# Altium integrated library Microchip Microcontroller 8-Bit PIC18.IntLib: 1312 symbols (part 1 of 56)
Pins are listed as number, name and electrical type; pins without a type are passive.

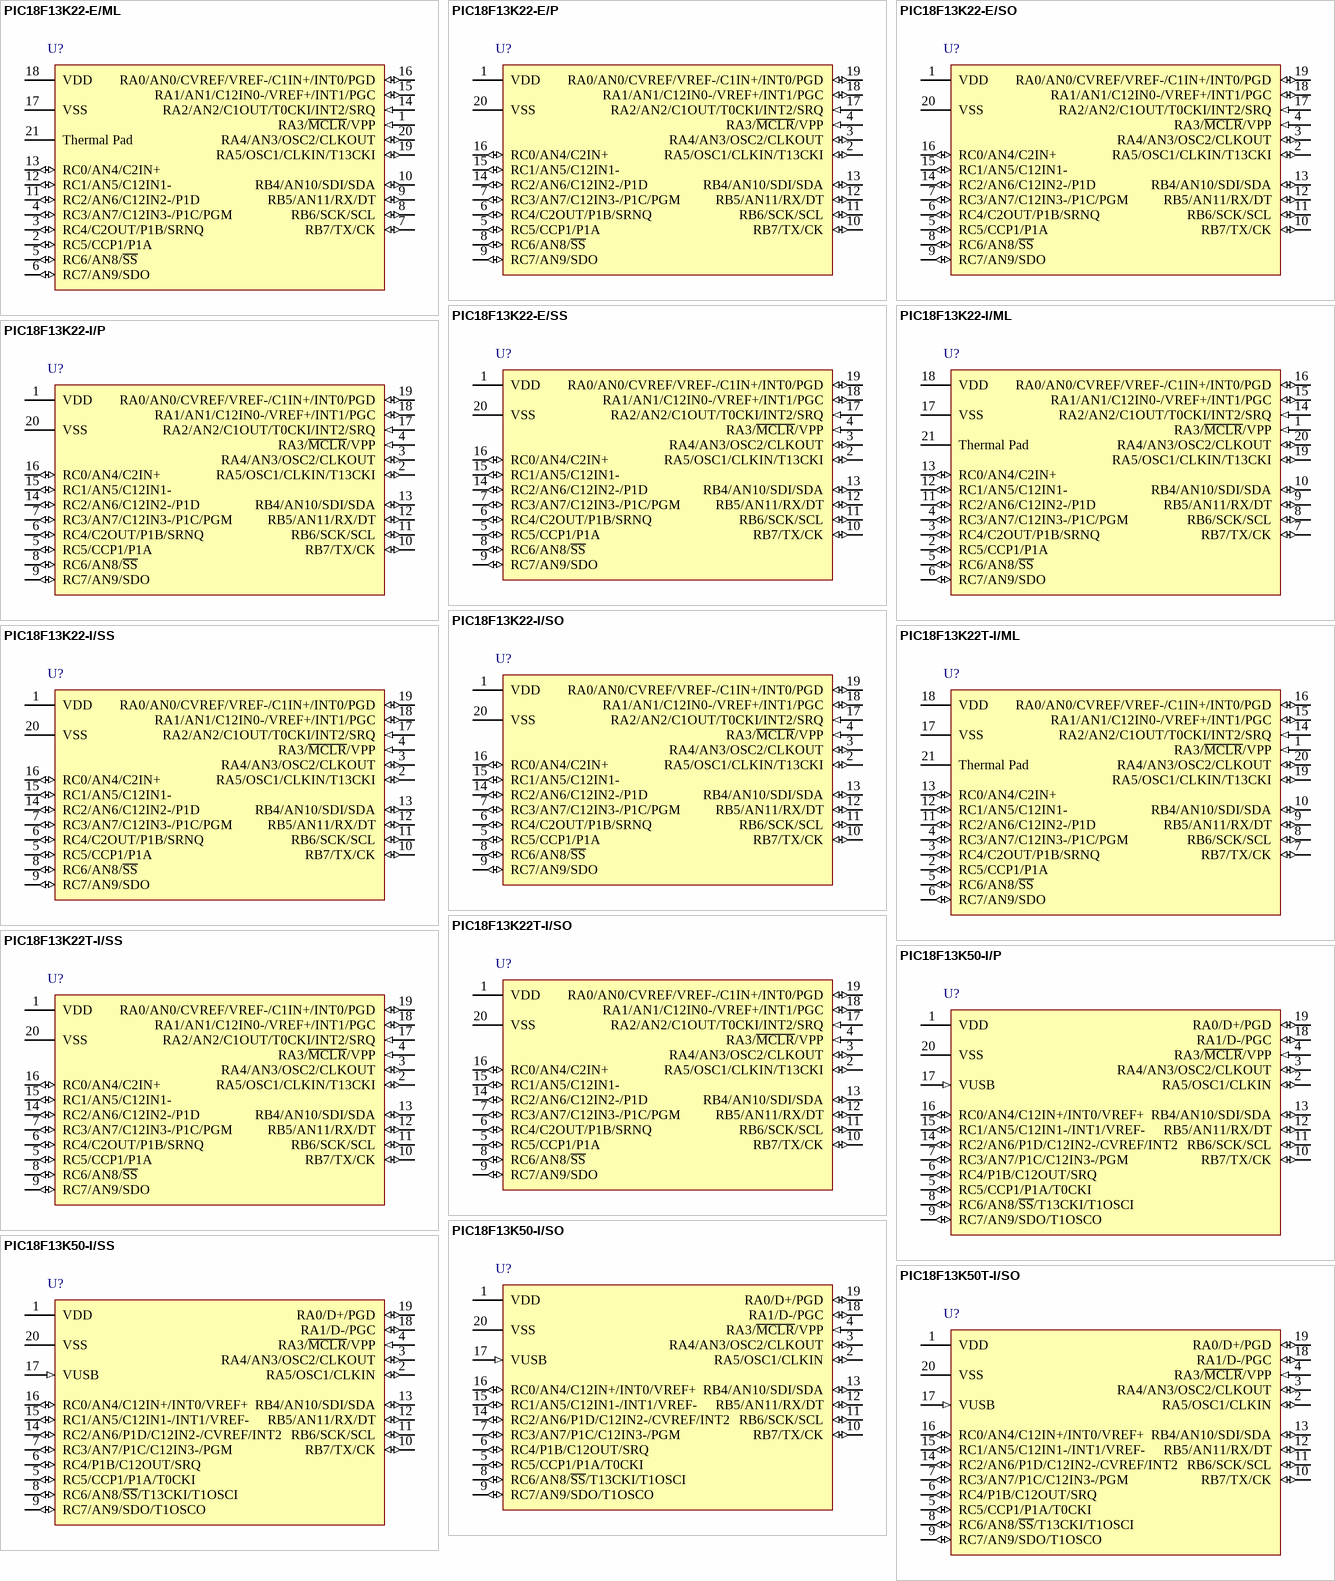
[diagram p0: symbols PIC18F13K22-E/ML to PIC18F13K50T-I/SO]

## PIC18F13K22-E/ML
designator U?
Flash Microcontroller with nanoWatt XLP Technology, 20-pin QFN, Extended Temperature; Published: 2-Dec-2009; DatasheetVersion: revC, Oct-2009; PackageVersion: revBB, Aug-2009; PackageReference: QFN-ML20; Publisher: Altium Limited; PackageDescription: 20-Lead Plastic Quad Flat, No Lead Package (ML) - 4x4x0.9 mm Body [QFN]; Supplier 1: Digi-Key; Supplier Part Number 1: PIC18F13K22-E/ML-ND; ComponentLink1Description: Datasheet; ComponentLink1URL: http://ww1.microchip.com/downloads/en/DeviceDoc/41365C.pdf; ComponentLink2Description: Packaging Specification; ComponentLink2URL: http://www.microchip.com/stellent/groups/techpub_sg/documents/packagingspec/en012702.pdf; ComponentLink3Description: Microchip.com Home; ComponentLink3URL: http://www.microchip.com/
footprint QFN-ML20_N (QFN, 20-Leads, Body 4x4mm, Pitch 0.5mm, IPC Medium Density)
footprint QFN-ML20_L (QFN, 20-Leads, Body 4x4mm, Pitch 0.5mm, IPC High Density)
footprint QFN-ML20_M (QFN, 20-Leads, Body 4x4mm, Pitch 0.5mm, IPC Low Density)
pins: 1 RA3/~{MCLR}/VPP (in), 2 RC5/CCP1/P1A (io), 3 RC4/C2OUT/P1B/SRNQ (io), 4 RC3/AN7/C12IN3-/P1C/PGM (io), 5 RC6/AN8/~{SS} (io), 6 RC7/AN9/SDO (io), 7 RB7/TX/CK (io), 8 RB6/SCK/SCL (io), 9 RB5/AN11/RX/DT (io), 10 RB4/AN10/SDI/SDA (io), 11 RC2/AN6/C12IN2-/P1D (io), 12 RC1/AN5/C12IN1- (io), 13 RC0/AN4/C2IN+ (io), 14 RA2/AN2/C1OUT/T0CKI/INT2/SRQ (in), 15 RA1/AN1/C12IN0-/VREF+/INT1/PGC (io), 16 RA0/AN0/CVREF/VREF-/C1IN+/INT0/PGD (io), 17 VSS (power), 18 VDD (power), 19 RA5/OSC1/CLKIN/T13CKI (io), 20 RA4/AN3/OSC2/CLKOUT (io), 21 Thermal Pad (power)

## PIC18F13K22-E/P
designator U?
Flash Microcontroller with nanoWatt XLP Technology, 20-pin PDIP, Extended Temperature; Published: 2-Dec-2009; DatasheetVersion: revC, Oct-2009; PackageVersion: revBB, Aug-2009; PackageReference: PDIP300-P20; Publisher: Altium Limited; PackageDescription: 20-Lead Plastic Dual In-Line (P) - 300 mil Body [PDIP]; Supplier 1: Digi-Key; Supplier Part Number 1: PIC18F13K22-E/P-ND; ComponentLink1Description: Datasheet; ComponentLink1URL: http://ww1.microchip.com/downloads/en/DeviceDoc/41365C.pdf; ComponentLink2Description: Packaging Specification; ComponentLink2URL: http://www.microchip.com/stellent/groups/techpub_sg/documents/packagingspec/en012702.pdf; ComponentLink3Description: Microchip.com Home; ComponentLink3URL: http://www.microchip.com/
footprint PDIP300-P20 (DIP, 20-Leads, Row Spacing 7.62mm, Pitch 2.54mm, Body 25.9x6.6mm)
pins: 1 VDD (power), 2 RA5/OSC1/CLKIN/T13CKI (io), 3 RA4/AN3/OSC2/CLKOUT (io), 4 RA3/~{MCLR}/VPP (in), 5 RC5/CCP1/P1A (io), 6 RC4/C2OUT/P1B/SRNQ (io), 7 RC3/AN7/C12IN3-/P1C/PGM (io), 8 RC6/AN8/~{SS} (io), 9 RC7/AN9/SDO (io), 10 RB7/TX/CK (io), 11 RB6/SCK/SCL (io), 12 RB5/AN11/RX/DT (io), 13 RB4/AN10/SDI/SDA (io), 14 RC2/AN6/C12IN2-/P1D (io), 15 RC1/AN5/C12IN1- (io), 16 RC0/AN4/C2IN+ (io), 17 RA2/AN2/C1OUT/T0CKI/INT2/SRQ (in), 18 RA1/AN1/C12IN0-/VREF+/INT1/PGC (io), 19 RA0/AN0/CVREF/VREF-/C1IN+/INT0/PGD (io), 20 VSS (power)

## PIC18F13K22-E/SO
designator U?
Flash Microcontroller with nanoWatt XLP Technology, 20-pin SOIC, Extended Temperature; Published: 2-Dec-2009; DatasheetVersion: revC, Oct-2009; PackageVersion: revBB, Aug-2009; PackageReference: SOIC-SO20; Publisher: Altium Limited; PackageDescription: 20-Lead Plastic Small Outline (SO) - Wide 7.50mm Body [SOIC]; Supplier 1: Digi-Key; Supplier Part Number 1: PIC18F13K22-E/SO-ND; Code_JEDEC: MS-013-AC; Code_IPC: SOIC127P1030-20; ComponentLink1Description: Datasheet; ComponentLink1URL: http://ww1.microchip.com/downloads/en/DeviceDoc/41365C.pdf; ComponentLink2Description: Packaging Specification; ComponentLink2URL: http://www.microchip.com/stellent/groups/techpub_sg/documents/packagingspec/en012702.pdf; ComponentLink3Description: Microchip.com Home; ComponentLink3URL: http://www.microchip.com/
footprint SOIC-SO20_N (SOIC, 20-Leads, Body 12.8x7.5mm, Pitch 1.27mm, IPC Medium Density)
footprint SOIC-SO20_L (SOIC, 20-Leads, Body 12.8x7.5mm, Pitch 1.27mm, IPC High Density)
footprint SOIC-SO20_M (SOIC, 20-Leads, Body 12.8x7.5mm, Pitch 1.27mm, IPC Low Density)
pins: 1 VDD (power), 2 RA5/OSC1/CLKIN/T13CKI (io), 3 RA4/AN3/OSC2/CLKOUT (io), 4 RA3/~{MCLR}/VPP (in), 5 RC5/CCP1/P1A (io), 6 RC4/C2OUT/P1B/SRNQ (io), 7 RC3/AN7/C12IN3-/P1C/PGM (io), 8 RC6/AN8/~{SS} (io), 9 RC7/AN9/SDO (io), 10 RB7/TX/CK (io), 11 RB6/SCK/SCL (io), 12 RB5/AN11/RX/DT (io), 13 RB4/AN10/SDI/SDA (io), 14 RC2/AN6/C12IN2-/P1D (io), 15 RC1/AN5/C12IN1- (io), 16 RC0/AN4/C2IN+ (io), 17 RA2/AN2/C1OUT/T0CKI/INT2/SRQ (in), 18 RA1/AN1/C12IN0-/VREF+/INT1/PGC (io), 19 RA0/AN0/CVREF/VREF-/C1IN+/INT0/PGD (io), 20 VSS (power)

## PIC18F13K22-E/SS
designator U?
Flash Microcontroller with nanoWatt XLP Technology, 20-pin SSOP, Extended Temperature; Published: 2-Dec-2009; DatasheetVersion: revC, Oct-2009; PackageVersion: revBB, Aug-2009; PackageReference: SSOP-SS20; Publisher: Altium Limited; PackageDescription: 20-Lead Plastic Shrink Small Outline (SS) - 5.3mm Body [SSOP]; Supplier 1: Digi-Key; Supplier Part Number 1: PIC18F13K22-E/SS-ND; Code_JEDEC: MO-150; Code_IPC: SOP65P780-20; ComponentLink1Description: Datasheet; ComponentLink1URL: http://ww1.microchip.com/downloads/en/DeviceDoc/41365C.pdf; ComponentLink2Description: Packaging Specification; ComponentLink2URL: http://www.microchip.com/stellent/groups/techpub_sg/documents/packagingspec/en012702.pdf; ComponentLink3Description: Microchip.com Home; ComponentLink3URL: http://www.microchip.com/
footprint SSOP-SS20_N (SOP, 20-Leads, Body 7.2x5.2mm, Pitch 0.65mm, IPC Medium Density)
footprint SSOP-SS20_L (SOP, 20-Leads, Body 7.2x5.2mm, Pitch 0.65mm, IPC High Density)
footprint SSOP-SS20_M (SOP, 20-Leads, Body 7.2x5.2mm, Pitch 0.65mm, IPC Low Density)
pins: 1 VDD (power), 2 RA5/OSC1/CLKIN/T13CKI (io), 3 RA4/AN3/OSC2/CLKOUT (io), 4 RA3/~{MCLR}/VPP (in), 5 RC5/CCP1/P1A (io), 6 RC4/C2OUT/P1B/SRNQ (io), 7 RC3/AN7/C12IN3-/P1C/PGM (io), 8 RC6/AN8/~{SS} (io), 9 RC7/AN9/SDO (io), 10 RB7/TX/CK (io), 11 RB6/SCK/SCL (io), 12 RB5/AN11/RX/DT (io), 13 RB4/AN10/SDI/SDA (io), 14 RC2/AN6/C12IN2-/P1D (io), 15 RC1/AN5/C12IN1- (io), 16 RC0/AN4/C2IN+ (io), 17 RA2/AN2/C1OUT/T0CKI/INT2/SRQ (in), 18 RA1/AN1/C12IN0-/VREF+/INT1/PGC (io), 19 RA0/AN0/CVREF/VREF-/C1IN+/INT0/PGD (io), 20 VSS (power)

## PIC18F13K22-I/ML
designator U?
Flash Microcontroller with nanoWatt XLP Technology, 20-pin QFN, Industrial Temperature; Published: 2-Dec-2009; DatasheetVersion: revC, Oct-2009; PackageVersion: revBB, Aug-2009; PackageReference: QFN-ML20; Publisher: Altium Limited; PackageDescription: 20-Lead Plastic Quad Flat, No Lead Package (ML) - 4x4x0.9 mm Body [QFN]; Supplier 1: Digi-Key; Supplier Part Number 1: PIC18F13K22-I/ML-ND; Supplier 2: Farnell; Supplier Part Number 2: 1778457; ComponentLink1Description: Datasheet; ComponentLink1URL: http://ww1.microchip.com/downloads/en/DeviceDoc/41365C.pdf; ComponentLink2Description: Packaging Specification; ComponentLink2URL: http://www.microchip.com/stellent/groups/techpub_sg/documents/packagingspec/en012702.pdf; ComponentLink3Description: Microchip.com Home; ComponentLink3URL: http://www.microchip.com/
footprint QFN-ML20_N (QFN, 20-Leads, Body 4x4mm, Pitch 0.5mm, IPC Medium Density)
footprint QFN-ML20_L (QFN, 20-Leads, Body 4x4mm, Pitch 0.5mm, IPC High Density)
footprint QFN-ML20_M (QFN, 20-Leads, Body 4x4mm, Pitch 0.5mm, IPC Low Density)
pins: 1 RA3/~{MCLR}/VPP (in), 2 RC5/CCP1/P1A (io), 3 RC4/C2OUT/P1B/SRNQ (io), 4 RC3/AN7/C12IN3-/P1C/PGM (io), 5 RC6/AN8/~{SS} (io), 6 RC7/AN9/SDO (io), 7 RB7/TX/CK (io), 8 RB6/SCK/SCL (io), 9 RB5/AN11/RX/DT (io), 10 RB4/AN10/SDI/SDA (io), 11 RC2/AN6/C12IN2-/P1D (io), 12 RC1/AN5/C12IN1- (io), 13 RC0/AN4/C2IN+ (io), 14 RA2/AN2/C1OUT/T0CKI/INT2/SRQ (in), 15 RA1/AN1/C12IN0-/VREF+/INT1/PGC (io), 16 RA0/AN0/CVREF/VREF-/C1IN+/INT0/PGD (io), 17 VSS (power), 18 VDD (power), 19 RA5/OSC1/CLKIN/T13CKI (io), 20 RA4/AN3/OSC2/CLKOUT (io), 21 Thermal Pad (power)

## PIC18F13K22-I/P
designator U?
Flash Microcontroller with nanoWatt XLP Technology, 20-pin PDIP, Industrial Temperature; Published: 2-Dec-2009; DatasheetVersion: revC, Oct-2009; PackageVersion: revBB, Aug-2009; PackageReference: PDIP300-P20; Publisher: Altium Limited; PackageDescription: 20-Lead Plastic Dual In-Line (P) - 300 mil Body [PDIP]; Supplier 1: Digi-Key; Supplier Part Number 1: PIC18F13K22-I/P-ND; Supplier 2: Farnell; Supplier Part Number 2: 1778458; ComponentLink1Description: Datasheet; ComponentLink1URL: http://ww1.microchip.com/downloads/en/DeviceDoc/41365C.pdf; ComponentLink2Description: Packaging Specification; ComponentLink2URL: http://www.microchip.com/stellent/groups/techpub_sg/documents/packagingspec/en012702.pdf; ComponentLink3Description: Microchip.com Home; ComponentLink3URL: http://www.microchip.com/
footprint PDIP300-P20 (DIP, 20-Leads, Row Spacing 7.62mm, Pitch 2.54mm, Body 25.9x6.6mm)
pins: 1 VDD (power), 2 RA5/OSC1/CLKIN/T13CKI (io), 3 RA4/AN3/OSC2/CLKOUT (io), 4 RA3/~{MCLR}/VPP (in), 5 RC5/CCP1/P1A (io), 6 RC4/C2OUT/P1B/SRNQ (io), 7 RC3/AN7/C12IN3-/P1C/PGM (io), 8 RC6/AN8/~{SS} (io), 9 RC7/AN9/SDO (io), 10 RB7/TX/CK (io), 11 RB6/SCK/SCL (io), 12 RB5/AN11/RX/DT (io), 13 RB4/AN10/SDI/SDA (io), 14 RC2/AN6/C12IN2-/P1D (io), 15 RC1/AN5/C12IN1- (io), 16 RC0/AN4/C2IN+ (io), 17 RA2/AN2/C1OUT/T0CKI/INT2/SRQ (in), 18 RA1/AN1/C12IN0-/VREF+/INT1/PGC (io), 19 RA0/AN0/CVREF/VREF-/C1IN+/INT0/PGD (io), 20 VSS (power)

## PIC18F13K22-I/SO
designator U?
Flash Microcontroller with nanoWatt XLP Technology, 20-pin SOIC, Industrial Temperature; Published: 2-Dec-2009; DatasheetVersion: revC, Oct-2009; PackageVersion: revBB, Aug-2009; PackageReference: SOIC-SO20; Publisher: Altium Limited; PackageDescription: 20-Lead Plastic Small Outline (SO) - Wide 7.50mm Body [SOIC]; Supplier 1: Digi-Key; Supplier Part Number 1: PIC18F13K22-I/SO-ND; Supplier 2: Farnell; Supplier Part Number 2: 1778459; Code_JEDEC: MS-013-AC; Code_IPC: SOIC127P1030-20; ComponentLink1Description: Datasheet; ComponentLink1URL: http://ww1.microchip.com/downloads/en/DeviceDoc/41365C.pdf; ComponentLink2Description: Packaging Specification; ComponentLink2URL: http://www.microchip.com/stellent/groups/techpub_sg/documents/packagingspec/en012702.pdf; ComponentLink3Description: Microchip.com Home; ComponentLink3URL: http://www.microchip.com/
footprint SOIC-SO20_N (SOIC, 20-Leads, Body 12.8x7.5mm, Pitch 1.27mm, IPC Medium Density)
footprint SOIC-SO20_L (SOIC, 20-Leads, Body 12.8x7.5mm, Pitch 1.27mm, IPC High Density)
footprint SOIC-SO20_M (SOIC, 20-Leads, Body 12.8x7.5mm, Pitch 1.27mm, IPC Low Density)
pins: 1 VDD (power), 2 RA5/OSC1/CLKIN/T13CKI (io), 3 RA4/AN3/OSC2/CLKOUT (io), 4 RA3/~{MCLR}/VPP (in), 5 RC5/CCP1/P1A (io), 6 RC4/C2OUT/P1B/SRNQ (io), 7 RC3/AN7/C12IN3-/P1C/PGM (io), 8 RC6/AN8/~{SS} (io), 9 RC7/AN9/SDO (io), 10 RB7/TX/CK (io), 11 RB6/SCK/SCL (io), 12 RB5/AN11/RX/DT (io), 13 RB4/AN10/SDI/SDA (io), 14 RC2/AN6/C12IN2-/P1D (io), 15 RC1/AN5/C12IN1- (io), 16 RC0/AN4/C2IN+ (io), 17 RA2/AN2/C1OUT/T0CKI/INT2/SRQ (in), 18 RA1/AN1/C12IN0-/VREF+/INT1/PGC (io), 19 RA0/AN0/CVREF/VREF-/C1IN+/INT0/PGD (io), 20 VSS (power)

## PIC18F13K22-I/SS
designator U?
Flash Microcontroller with nanoWatt XLP Technology, 20-pin SSOP, Industrial Temperature; Published: 2-Dec-2009; DatasheetVersion: revC, Oct-2009; PackageVersion: revBB, Aug-2009; PackageReference: SSOP-SS20; Publisher: Altium Limited; PackageDescription: 20-Lead Plastic Shrink Small Outline (SS) - 5.3mm Body [SSOP]; Supplier 1: Digi-Key; Supplier Part Number 1: PIC18F13K22-I/SS-ND; Supplier 2: Farnell; Supplier Part Number 2: 1778460; Code_JEDEC: MO-150; Code_IPC: SOP65P780-20; ComponentLink1Description: Datasheet; ComponentLink1URL: http://ww1.microchip.com/downloads/en/DeviceDoc/41365C.pdf; ComponentLink2Description: Packaging Specification; ComponentLink2URL: http://www.microchip.com/stellent/groups/techpub_sg/documents/packagingspec/en012702.pdf; ComponentLink3Description: Microchip.com Home; ComponentLink3URL: http://www.microchip.com/
footprint SSOP-SS20_N (SOP, 20-Leads, Body 7.2x5.2mm, Pitch 0.65mm, IPC Medium Density)
footprint SSOP-SS20_L (SOP, 20-Leads, Body 7.2x5.2mm, Pitch 0.65mm, IPC High Density)
footprint SSOP-SS20_M (SOP, 20-Leads, Body 7.2x5.2mm, Pitch 0.65mm, IPC Low Density)
pins: 1 VDD (power), 2 RA5/OSC1/CLKIN/T13CKI (io), 3 RA4/AN3/OSC2/CLKOUT (io), 4 RA3/~{MCLR}/VPP (in), 5 RC5/CCP1/P1A (io), 6 RC4/C2OUT/P1B/SRNQ (io), 7 RC3/AN7/C12IN3-/P1C/PGM (io), 8 RC6/AN8/~{SS} (io), 9 RC7/AN9/SDO (io), 10 RB7/TX/CK (io), 11 RB6/SCK/SCL (io), 12 RB5/AN11/RX/DT (io), 13 RB4/AN10/SDI/SDA (io), 14 RC2/AN6/C12IN2-/P1D (io), 15 RC1/AN5/C12IN1- (io), 16 RC0/AN4/C2IN+ (io), 17 RA2/AN2/C1OUT/T0CKI/INT2/SRQ (in), 18 RA1/AN1/C12IN0-/VREF+/INT1/PGC (io), 19 RA0/AN0/CVREF/VREF-/C1IN+/INT0/PGD (io), 20 VSS (power)

## PIC18F13K22T-I/ML
designator U?
Flash Microcontroller with nanoWatt XLP Technology, 20-pin QFN, Industrial Temperature, Tape and Reel; Published: 2-Dec-2009; DatasheetVersion: revC, Oct-2009; PackageVersion: revBB, Aug-2009; PackageReference: QFN-ML20; Publisher: Altium Limited; PackageDescription: 20-Lead Plastic Quad Flat, No Lead Package (ML) - 4x4x0.9 mm Body [QFN]; Supplier 1: Digi-Key; Supplier Part Number 1: PIC18F13K22T-I/ML-ND; ComponentLink1Description: Datasheet; ComponentLink1URL: http://ww1.microchip.com/downloads/en/DeviceDoc/41365C.pdf; ComponentLink2Description: Packaging Specification; ComponentLink2URL: http://www.microchip.com/stellent/groups/techpub_sg/documents/packagingspec/en012702.pdf; ComponentLink3Description: Microchip.com Home; ComponentLink3URL: http://www.microchip.com/
footprint QFN-ML20_N (QFN, 20-Leads, Body 4x4mm, Pitch 0.5mm, IPC Medium Density)
footprint QFN-ML20_L (QFN, 20-Leads, Body 4x4mm, Pitch 0.5mm, IPC High Density)
footprint QFN-ML20_M (QFN, 20-Leads, Body 4x4mm, Pitch 0.5mm, IPC Low Density)
pins: 1 RA3/~{MCLR}/VPP (in), 2 RC5/CCP1/P1A (io), 3 RC4/C2OUT/P1B/SRNQ (io), 4 RC3/AN7/C12IN3-/P1C/PGM (io), 5 RC6/AN8/~{SS} (io), 6 RC7/AN9/SDO (io), 7 RB7/TX/CK (io), 8 RB6/SCK/SCL (io), 9 RB5/AN11/RX/DT (io), 10 RB4/AN10/SDI/SDA (io), 11 RC2/AN6/C12IN2-/P1D (io), 12 RC1/AN5/C12IN1- (io), 13 RC0/AN4/C2IN+ (io), 14 RA2/AN2/C1OUT/T0CKI/INT2/SRQ (in), 15 RA1/AN1/C12IN0-/VREF+/INT1/PGC (io), 16 RA0/AN0/CVREF/VREF-/C1IN+/INT0/PGD (io), 17 VSS (power), 18 VDD (power), 19 RA5/OSC1/CLKIN/T13CKI (io), 20 RA4/AN3/OSC2/CLKOUT (io), 21 Thermal Pad (power)

## PIC18F13K22T-I/SO
designator U?
Flash Microcontroller with nanoWatt XLP Technology, 20-pin SOIC, Industrial Temperature, Tape and Reel; Published: 2-Dec-2009; DatasheetVersion: revC, Oct-2009; PackageVersion: revBB, Aug-2009; PackageReference: SOIC-SO20; Publisher: Altium Limited; PackageDescription: 20-Lead Plastic Small Outline (SO) - Wide 7.50mm Body [SOIC]; Supplier 1: Digi-Key; Supplier Part Number 1: PIC18F13K22T-I/SO-ND; Code_JEDEC: MS-013-AC; Code_IPC: SOIC127P1030-20; ComponentLink1Description: Datasheet; ComponentLink1URL: http://ww1.microchip.com/downloads/en/DeviceDoc/41365C.pdf; ComponentLink2Description: Packaging Specification; ComponentLink2URL: http://www.microchip.com/stellent/groups/techpub_sg/documents/packagingspec/en012702.pdf; ComponentLink3Description: Microchip.com Home; ComponentLink3URL: http://www.microchip.com/
footprint SOIC-SO20_N (SOIC, 20-Leads, Body 12.8x7.5mm, Pitch 1.27mm, IPC Medium Density)
footprint SOIC-SO20_L (SOIC, 20-Leads, Body 12.8x7.5mm, Pitch 1.27mm, IPC High Density)
footprint SOIC-SO20_M (SOIC, 20-Leads, Body 12.8x7.5mm, Pitch 1.27mm, IPC Low Density)
pins: 1 VDD (power), 2 RA5/OSC1/CLKIN/T13CKI (io), 3 RA4/AN3/OSC2/CLKOUT (io), 4 RA3/~{MCLR}/VPP (in), 5 RC5/CCP1/P1A (io), 6 RC4/C2OUT/P1B/SRNQ (io), 7 RC3/AN7/C12IN3-/P1C/PGM (io), 8 RC6/AN8/~{SS} (io), 9 RC7/AN9/SDO (io), 10 RB7/TX/CK (io), 11 RB6/SCK/SCL (io), 12 RB5/AN11/RX/DT (io), 13 RB4/AN10/SDI/SDA (io), 14 RC2/AN6/C12IN2-/P1D (io), 15 RC1/AN5/C12IN1- (io), 16 RC0/AN4/C2IN+ (io), 17 RA2/AN2/C1OUT/T0CKI/INT2/SRQ (in), 18 RA1/AN1/C12IN0-/VREF+/INT1/PGC (io), 19 RA0/AN0/CVREF/VREF-/C1IN+/INT0/PGD (io), 20 VSS (power)

## PIC18F13K22T-I/SS
designator U?
Flash Microcontroller with nanoWatt XLP Technology, 20-pin SSOP, Industrial Temperature, Tape and Reel; Published: 2-Dec-2009; DatasheetVersion: revC, Oct-2009; PackageVersion: revBB, Aug-2009; PackageReference: SSOP-SS20; Publisher: Altium Limited; PackageDescription: 20-Lead Plastic Shrink Small Outline (SS) - 5.3mm Body [SSOP]; Supplier 1: Digi-Key; Supplier Part Number 1: PIC18F13K22T-I/SS-ND; Code_JEDEC: MO-150; Code_IPC: SOP65P780-20; ComponentLink1Description: Datasheet; ComponentLink1URL: http://ww1.microchip.com/downloads/en/DeviceDoc/41365C.pdf; ComponentLink2Description: Packaging Specification; ComponentLink2URL: http://www.microchip.com/stellent/groups/techpub_sg/documents/packagingspec/en012702.pdf; ComponentLink3Description: Microchip.com Home; ComponentLink3URL: http://www.microchip.com/
footprint SSOP-SS20_N (SOP, 20-Leads, Body 7.2x5.2mm, Pitch 0.65mm, IPC Medium Density)
footprint SSOP-SS20_L (SOP, 20-Leads, Body 7.2x5.2mm, Pitch 0.65mm, IPC High Density)
footprint SSOP-SS20_M (SOP, 20-Leads, Body 7.2x5.2mm, Pitch 0.65mm, IPC Low Density)
pins: 1 VDD (power), 2 RA5/OSC1/CLKIN/T13CKI (io), 3 RA4/AN3/OSC2/CLKOUT (io), 4 RA3/~{MCLR}/VPP (in), 5 RC5/CCP1/P1A (io), 6 RC4/C2OUT/P1B/SRNQ (io), 7 RC3/AN7/C12IN3-/P1C/PGM (io), 8 RC6/AN8/~{SS} (io), 9 RC7/AN9/SDO (io), 10 RB7/TX/CK (io), 11 RB6/SCK/SCL (io), 12 RB5/AN11/RX/DT (io), 13 RB4/AN10/SDI/SDA (io), 14 RC2/AN6/C12IN2-/P1D (io), 15 RC1/AN5/C12IN1- (io), 16 RC0/AN4/C2IN+ (io), 17 RA2/AN2/C1OUT/T0CKI/INT2/SRQ (in), 18 RA1/AN1/C12IN0-/VREF+/INT1/PGC (io), 19 RA0/AN0/CVREF/VREF-/C1IN+/INT0/PGD (io), 20 VSS (power)

## PIC18F13K50-I/P
designator U?
USB Flash Microcontroller with nanoWatt XLP Technology, 20-pin PDIP, Industrial Temperature; Published: 2-Dec-2009; DatasheetVersion: revC, Mar-2009; PackageVersion: revBB, Aug-2009; PackageReference: PDIP300-P20; Publisher: Altium Limited; PackageDescription: 20-Lead Plastic Dual In-Line (P) - 300 mil Body [PDIP]; Supplier 1: Digi-Key; Supplier Part Number 1: PIC18F13K50-I/P-ND; Supplier 2: Farnell; Supplier Part Number 2: 1697073; ComponentLink1Description: Datasheet; ComponentLink1URL: http://ww1.microchip.com/downloads/en/DeviceDoc/41350C.pdf; ComponentLink2Description: Packaging Specification; ComponentLink2URL: http://www.microchip.com/stellent/groups/techpub_sg/documents/packagingspec/en012702.pdf; ComponentLink3Description: Microchip.com Home; ComponentLink3URL: http://www.microchip.com/
footprint PDIP300-P20 (DIP, 20-Leads, Row Spacing 7.62mm, Pitch 2.54mm, Body 25.9x6.6mm)
pins: 1 VDD (power), 2 RA5/OSC1/CLKIN (io), 3 RA4/AN3/OSC2/CLKOUT (io), 4 RA3/~{MCLR}/VPP (in), 5 RC5/CCP1/P1A/T0CKI (io), 6 RC4/P1B/C12OUT/SRQ (io), 7 RC3/AN7/P1C/C12IN3-/PGM (io), 8 RC6/AN8/~{SS}/T13CKI/T1OSCI (io), 9 RC7/AN9/SDO/T1OSCO (io), 10 RB7/TX/CK (io), 11 RB6/SCK/SCL (io), 12 RB5/AN11/RX/DT (io), 13 RB4/AN10/SDI/SDA (io), 14 RC2/AN6/P1D/C12IN2-/CVREF/INT2 (io), 15 RC1/AN5/C12IN1-/INT1/VREF- (io), 16 RC0/AN4/C12IN+/INT0/VREF+ (io), 17 VUSB (in), 18 RA1/D-/PGC (io), 19 RA0/D+/PGD (io), 20 VSS (power)

## PIC18F13K50-I/SO
designator U?
USB Flash Microcontroller with nanoWatt XLP Technology, 20-pin SOIC, Industrial Temperature; Published: 2-Dec-2009; DatasheetVersion: revC, Mar-2009; PackageVersion: revBB, Aug-2009; PackageReference: SOIC-SO20; Publisher: Altium Limited; PackageDescription: 20-Lead Plastic Small Outline (SO) - Wide 7.50mm Body [SOIC]; Supplier 1: Digi-Key; Supplier Part Number 1: PIC18F13K50-I/SO-ND; Supplier 2: Farnell; Supplier Part Number 2: 1706301; Code_JEDEC: MS-013-AC; Code_IPC: SOIC127P1030-20; ComponentLink1Description: Datasheet; ComponentLink1URL: http://ww1.microchip.com/downloads/en/DeviceDoc/41350C.pdf; ComponentLink2Description: Packaging Specification; ComponentLink2URL: http://www.microchip.com/stellent/groups/techpub_sg/documents/packagingspec/en012702.pdf; ComponentLink3Description: Microchip.com Home; ComponentLink3URL: http://www.microchip.com/
footprint SOIC-SO20_N (SOIC, 20-Leads, Body 12.8x7.5mm, Pitch 1.27mm, IPC Medium Density)
footprint SOIC-SO20_L (SOIC, 20-Leads, Body 12.8x7.5mm, Pitch 1.27mm, IPC High Density)
footprint SOIC-SO20_M (SOIC, 20-Leads, Body 12.8x7.5mm, Pitch 1.27mm, IPC Low Density)
pins: 1 VDD (power), 2 RA5/OSC1/CLKIN (io), 3 RA4/AN3/OSC2/CLKOUT (io), 4 RA3/~{MCLR}/VPP (in), 5 RC5/CCP1/P1A/T0CKI (io), 6 RC4/P1B/C12OUT/SRQ (io), 7 RC3/AN7/P1C/C12IN3-/PGM (io), 8 RC6/AN8/~{SS}/T13CKI/T1OSCI (io), 9 RC7/AN9/SDO/T1OSCO (io), 10 RB7/TX/CK (io), 11 RB6/SCK/SCL (io), 12 RB5/AN11/RX/DT (io), 13 RB4/AN10/SDI/SDA (io), 14 RC2/AN6/P1D/C12IN2-/CVREF/INT2 (io), 15 RC1/AN5/C12IN1-/INT1/VREF- (io), 16 RC0/AN4/C12IN+/INT0/VREF+ (io), 17 VUSB (in), 18 RA1/D-/PGC (io), 19 RA0/D+/PGD (io), 20 VSS (power)

## PIC18F13K50-I/SS
designator U?
USB Flash Microcontroller with nanoWatt XLP Technology, 20-pin SSOP, Industrial Temperature; Published: 2-Dec-2009; DatasheetVersion: revC, Mar-2009; PackageVersion: revBB, Aug-2009; PackageReference: SSOP-SS20; Publisher: Altium Limited; PackageDescription: 20-Lead Plastic Shrink Small Outline (SS) - 5.3mm Body [SSOP]; Supplier 1: Digi-Key; Supplier Part Number 1: PIC18F13K50-I/SS-ND; Supplier 2: Farnell; Supplier Part Number 2: 1706290; Code_JEDEC: MO-150; Code_IPC: SOP65P780-20; ComponentLink1Description: Datasheet; ComponentLink1URL: http://ww1.microchip.com/downloads/en/DeviceDoc/41350C.pdf; ComponentLink2Description: Packaging Specification; ComponentLink2URL: http://www.microchip.com/stellent/groups/techpub_sg/documents/packagingspec/en012702.pdf; ComponentLink3Description: Microchip.com Home; ComponentLink3URL: http://www.microchip.com/
footprint SSOP-SS20_N (SOP, 20-Leads, Body 7.2x5.2mm, Pitch 0.65mm, IPC Medium Density)
footprint SSOP-SS20_L (SOP, 20-Leads, Body 7.2x5.2mm, Pitch 0.65mm, IPC High Density)
footprint SSOP-SS20_M (SOP, 20-Leads, Body 7.2x5.2mm, Pitch 0.65mm, IPC Low Density)
pins: 1 VDD (power), 2 RA5/OSC1/CLKIN (io), 3 RA4/AN3/OSC2/CLKOUT (io), 4 RA3/~{MCLR}/VPP (in), 5 RC5/CCP1/P1A/T0CKI (io), 6 RC4/P1B/C12OUT/SRQ (io), 7 RC3/AN7/P1C/C12IN3-/PGM (io), 8 RC6/AN8/~{SS}/T13CKI/T1OSCI (io), 9 RC7/AN9/SDO/T1OSCO (io), 10 RB7/TX/CK (io), 11 RB6/SCK/SCL (io), 12 RB5/AN11/RX/DT (io), 13 RB4/AN10/SDI/SDA (io), 14 RC2/AN6/P1D/C12IN2-/CVREF/INT2 (io), 15 RC1/AN5/C12IN1-/INT1/VREF- (io), 16 RC0/AN4/C12IN+/INT0/VREF+ (io), 17 VUSB (in), 18 RA1/D-/PGC (io), 19 RA0/D+/PGD (io), 20 VSS (power)

## PIC18F13K50T-I/SO
designator U?
USB Flash Microcontroller with nanoWatt XLP Technology, 20-pin SOIC, Industrial Temperature, Tape and Reel; Published: 2-Dec-2009; DatasheetVersion: revC, Mar-2009; PackageVersion: revBB, Aug-2009; PackageReference: SOIC-SO20; Publisher: Altium Limited; PackageDescription: 20-Lead Plastic Small Outline (SO) - Wide 7.50mm Body [SOIC]; Supplier 1: Digi-Key; Supplier Part Number 1: PIC18F13K50T-I/SO-ND; Code_JEDEC: MS-013-AC; Code_IPC: SOIC127P1030-20; ComponentLink1Description: Datasheet; ComponentLink1URL: http://ww1.microchip.com/downloads/en/DeviceDoc/41350C.pdf; ComponentLink2Description: Packaging Specification; ComponentLink2URL: http://www.microchip.com/stellent/groups/techpub_sg/documents/packagingspec/en012702.pdf; ComponentLink3Description: Microchip.com Home; ComponentLink3URL: http://www.microchip.com/
footprint SOIC-SO20_N (SOIC, 20-Leads, Body 12.8x7.5mm, Pitch 1.27mm, IPC Medium Density)
footprint SOIC-SO20_L (SOIC, 20-Leads, Body 12.8x7.5mm, Pitch 1.27mm, IPC High Density)
footprint SOIC-SO20_M (SOIC, 20-Leads, Body 12.8x7.5mm, Pitch 1.27mm, IPC Low Density)
pins: 1 VDD (power), 2 RA5/OSC1/CLKIN (io), 3 RA4/AN3/OSC2/CLKOUT (io), 4 RA3/~{MCLR}/VPP (in), 5 RC5/CCP1/P1A/T0CKI (io), 6 RC4/P1B/C12OUT/SRQ (io), 7 RC3/AN7/P1C/C12IN3-/PGM (io), 8 RC6/AN8/~{SS}/T13CKI/T1OSCI (io), 9 RC7/AN9/SDO/T1OSCO (io), 10 RB7/TX/CK (io), 11 RB6/SCK/SCL (io), 12 RB5/AN11/RX/DT (io), 13 RB4/AN10/SDI/SDA (io), 14 RC2/AN6/P1D/C12IN2-/CVREF/INT2 (io), 15 RC1/AN5/C12IN1-/INT1/VREF- (io), 16 RC0/AN4/C12IN+/INT0/VREF+ (io), 17 VUSB (in), 18 RA1/D-/PGC (io), 19 RA0/D+/PGD (io), 20 VSS (power)

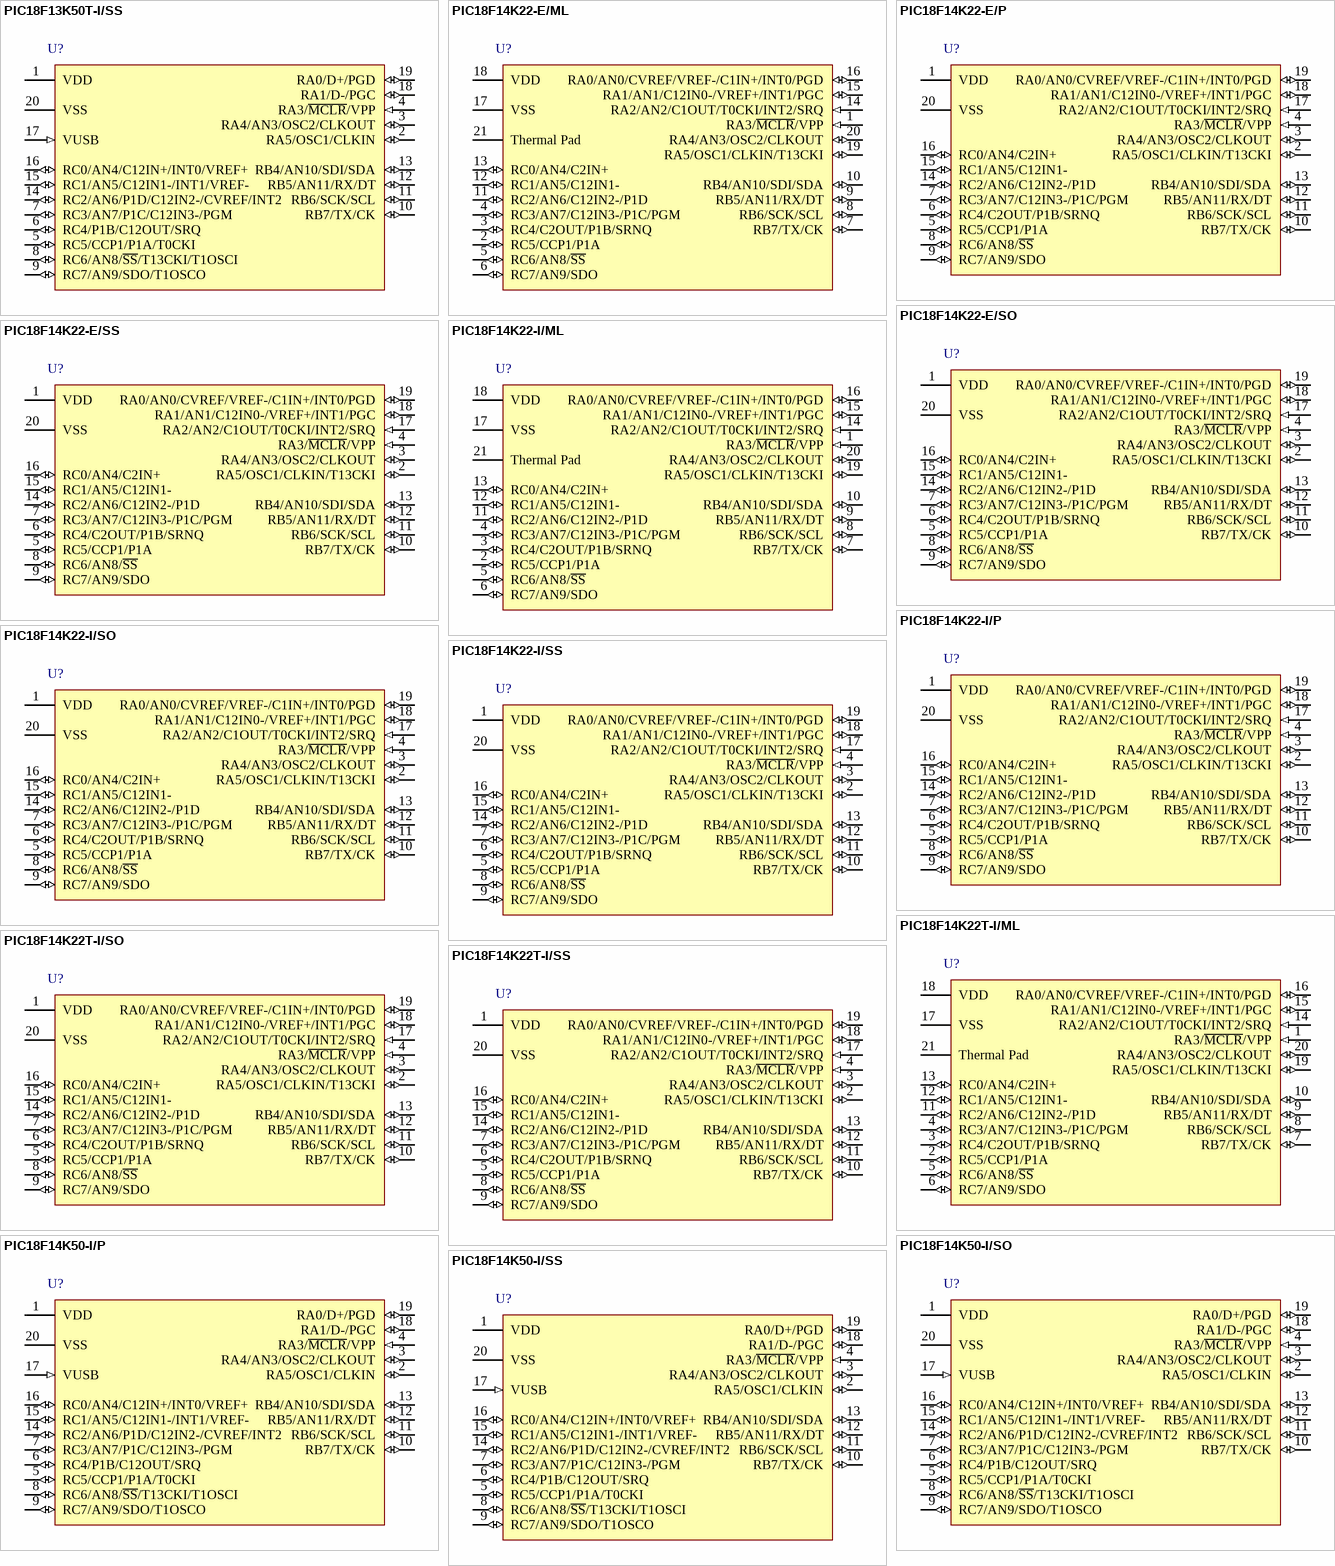
[diagram p1: symbols PIC18F13K50T-I/SS to PIC18F14K50-I/SS]

## PIC18F13K50T-I/SS
designator U?
USB Flash Microcontroller with nanoWatt XLP Technology, 20-pin SSOP, Industrial Temperature, Tape and Reel; Published: 2-Dec-2009; DatasheetVersion: revC, Mar-2009; PackageVersion: revBB, Aug-2009; PackageReference: SSOP-SS20; Publisher: Altium Limited; PackageDescription: 20-Lead Plastic Shrink Small Outline (SS) - 5.3mm Body [SSOP]; Supplier 1: Digi-Key; Supplier Part Number 1: PIC18F13K50T-I/SS-ND; Code_JEDEC: MO-150; Code_IPC: SOP65P780-20; ComponentLink1Description: Datasheet; ComponentLink1URL: http://ww1.microchip.com/downloads/en/DeviceDoc/41350C.pdf; ComponentLink2Description: Packaging Specification; ComponentLink2URL: http://www.microchip.com/stellent/groups/techpub_sg/documents/packagingspec/en012702.pdf; ComponentLink3Description: Microchip.com Home; ComponentLink3URL: http://www.microchip.com/
footprint SSOP-SS20_N (SOP, 20-Leads, Body 7.2x5.2mm, Pitch 0.65mm, IPC Medium Density)
footprint SSOP-SS20_L (SOP, 20-Leads, Body 7.2x5.2mm, Pitch 0.65mm, IPC High Density)
footprint SSOP-SS20_M (SOP, 20-Leads, Body 7.2x5.2mm, Pitch 0.65mm, IPC Low Density)
pins: 1 VDD (power), 2 RA5/OSC1/CLKIN (io), 3 RA4/AN3/OSC2/CLKOUT (io), 4 RA3/~{MCLR}/VPP (in), 5 RC5/CCP1/P1A/T0CKI (io), 6 RC4/P1B/C12OUT/SRQ (io), 7 RC3/AN7/P1C/C12IN3-/PGM (io), 8 RC6/AN8/~{SS}/T13CKI/T1OSCI (io), 9 RC7/AN9/SDO/T1OSCO (io), 10 RB7/TX/CK (io), 11 RB6/SCK/SCL (io), 12 RB5/AN11/RX/DT (io), 13 RB4/AN10/SDI/SDA (io), 14 RC2/AN6/P1D/C12IN2-/CVREF/INT2 (io), 15 RC1/AN5/C12IN1-/INT1/VREF- (io), 16 RC0/AN4/C12IN+/INT0/VREF+ (io), 17 VUSB (in), 18 RA1/D-/PGC (io), 19 RA0/D+/PGD (io), 20 VSS (power)

## PIC18F14K22-E/ML
designator U?
Flash Microcontroller with nanoWatt XLP Technology, 20-pin QFN, Extended Temperature; Published: 2-Dec-2009; DatasheetVersion: revC, Oct-2009; PackageVersion: revBB, Aug-2009; PackageReference: QFN-ML20; Publisher: Altium Limited; PackageDescription: 20-Lead Plastic Quad Flat, No Lead Package (ML) - 4x4x0.9 mm Body [QFN]; Supplier 1: Digi-Key; Supplier Part Number 1: PIC18F14K22-E/ML-ND; ComponentLink1Description: Datasheet; ComponentLink1URL: http://ww1.microchip.com/downloads/en/DeviceDoc/41365C.pdf; ComponentLink2Description: Packaging Specification; ComponentLink2URL: http://www.microchip.com/stellent/groups/techpub_sg/documents/packagingspec/en012702.pdf; ComponentLink3Description: Microchip.com Home; ComponentLink3URL: http://www.microchip.com/
footprint QFN-ML20_N (QFN, 20-Leads, Body 4x4mm, Pitch 0.5mm, IPC Medium Density)
footprint QFN-ML20_L (QFN, 20-Leads, Body 4x4mm, Pitch 0.5mm, IPC High Density)
footprint QFN-ML20_M (QFN, 20-Leads, Body 4x4mm, Pitch 0.5mm, IPC Low Density)
pins: 1 RA3/~{MCLR}/VPP (in), 2 RC5/CCP1/P1A (io), 3 RC4/C2OUT/P1B/SRNQ (io), 4 RC3/AN7/C12IN3-/P1C/PGM (io), 5 RC6/AN8/~{SS} (io), 6 RC7/AN9/SDO (io), 7 RB7/TX/CK (io), 8 RB6/SCK/SCL (io), 9 RB5/AN11/RX/DT (io), 10 RB4/AN10/SDI/SDA (io), 11 RC2/AN6/C12IN2-/P1D (io), 12 RC1/AN5/C12IN1- (io), 13 RC0/AN4/C2IN+ (io), 14 RA2/AN2/C1OUT/T0CKI/INT2/SRQ (in), 15 RA1/AN1/C12IN0-/VREF+/INT1/PGC (io), 16 RA0/AN0/CVREF/VREF-/C1IN+/INT0/PGD (io), 17 VSS (power), 18 VDD (power), 19 RA5/OSC1/CLKIN/T13CKI (io), 20 RA4/AN3/OSC2/CLKOUT (io), 21 Thermal Pad (power)

## PIC18F14K22-E/P
designator U?
Flash Microcontroller with nanoWatt XLP Technology, 20-pin PDIP, Extended Temperature; Published: 2-Dec-2009; DatasheetVersion: revC, Oct-2009; PackageVersion: revBB, Aug-2009; PackageReference: PDIP300-P20; Publisher: Altium Limited; PackageDescription: 20-Lead Plastic Dual In-Line (P) - 300 mil Body [PDIP]; Supplier 1: Digi-Key; Supplier Part Number 1: PIC18F14K22-E/P-ND; ComponentLink1Description: Datasheet; ComponentLink1URL: http://ww1.microchip.com/downloads/en/DeviceDoc/41365C.pdf; ComponentLink2Description: Packaging Specification; ComponentLink2URL: http://www.microchip.com/stellent/groups/techpub_sg/documents/packagingspec/en012702.pdf; ComponentLink3Description: Microchip.com Home; ComponentLink3URL: http://www.microchip.com/
footprint PDIP300-P20 (DIP, 20-Leads, Row Spacing 7.62mm, Pitch 2.54mm, Body 25.9x6.6mm)
pins: 1 VDD (power), 2 RA5/OSC1/CLKIN/T13CKI (io), 3 RA4/AN3/OSC2/CLKOUT (io), 4 RA3/~{MCLR}/VPP (in), 5 RC5/CCP1/P1A (io), 6 RC4/C2OUT/P1B/SRNQ (io), 7 RC3/AN7/C12IN3-/P1C/PGM (io), 8 RC6/AN8/~{SS} (io), 9 RC7/AN9/SDO (io), 10 RB7/TX/CK (io), 11 RB6/SCK/SCL (io), 12 RB5/AN11/RX/DT (io), 13 RB4/AN10/SDI/SDA (io), 14 RC2/AN6/C12IN2-/P1D (io), 15 RC1/AN5/C12IN1- (io), 16 RC0/AN4/C2IN+ (io), 17 RA2/AN2/C1OUT/T0CKI/INT2/SRQ (in), 18 RA1/AN1/C12IN0-/VREF+/INT1/PGC (io), 19 RA0/AN0/CVREF/VREF-/C1IN+/INT0/PGD (io), 20 VSS (power)

## PIC18F14K22-E/SO
designator U?
Flash Microcontroller with nanoWatt XLP Technology, 20-pin SOIC, Extended Temperature; Published: 2-Dec-2009; DatasheetVersion: revC, Oct-2009; PackageVersion: revBB, Aug-2009; PackageReference: SOIC-SO20; Publisher: Altium Limited; PackageDescription: 20-Lead Plastic Small Outline (SO) - Wide 7.50mm Body [SOIC]; Supplier 1: Digi-Key; Supplier Part Number 1: PIC18F14K22-E/SO-ND; Code_JEDEC: MS-013-AC; Code_IPC: SOIC127P1030-20; ComponentLink1Description: Datasheet; ComponentLink1URL: http://ww1.microchip.com/downloads/en/DeviceDoc/41365C.pdf; ComponentLink2Description: Packaging Specification; ComponentLink2URL: http://www.microchip.com/stellent/groups/techpub_sg/documents/packagingspec/en012702.pdf; ComponentLink3Description: Microchip.com Home; ComponentLink3URL: http://www.microchip.com/
footprint SOIC-SO20_N (SOIC, 20-Leads, Body 12.8x7.5mm, Pitch 1.27mm, IPC Medium Density)
footprint SOIC-SO20_L (SOIC, 20-Leads, Body 12.8x7.5mm, Pitch 1.27mm, IPC High Density)
footprint SOIC-SO20_M (SOIC, 20-Leads, Body 12.8x7.5mm, Pitch 1.27mm, IPC Low Density)
pins: 1 VDD (power), 2 RA5/OSC1/CLKIN/T13CKI (io), 3 RA4/AN3/OSC2/CLKOUT (io), 4 RA3/~{MCLR}/VPP (in), 5 RC5/CCP1/P1A (io), 6 RC4/C2OUT/P1B/SRNQ (io), 7 RC3/AN7/C12IN3-/P1C/PGM (io), 8 RC6/AN8/~{SS} (io), 9 RC7/AN9/SDO (io), 10 RB7/TX/CK (io), 11 RB6/SCK/SCL (io), 12 RB5/AN11/RX/DT (io), 13 RB4/AN10/SDI/SDA (io), 14 RC2/AN6/C12IN2-/P1D (io), 15 RC1/AN5/C12IN1- (io), 16 RC0/AN4/C2IN+ (io), 17 RA2/AN2/C1OUT/T0CKI/INT2/SRQ (in), 18 RA1/AN1/C12IN0-/VREF+/INT1/PGC (io), 19 RA0/AN0/CVREF/VREF-/C1IN+/INT0/PGD (io), 20 VSS (power)

## PIC18F14K22-E/SS
designator U?
Flash Microcontroller with nanoWatt XLP Technology, 20-pin SSOP, Extended Temperature; Published: 2-Dec-2009; DatasheetVersion: revC, Oct-2009; PackageVersion: revBB, Aug-2009; PackageReference: SSOP-SS20; Publisher: Altium Limited; PackageDescription: 20-Lead Plastic Shrink Small Outline (SS) - 5.3mm Body [SSOP]; Supplier 1: Digi-Key; Supplier Part Number 1: PIC18F14K22-E/SS-ND; Code_JEDEC: MO-150; Code_IPC: SOP65P780-20; ComponentLink1Description: Datasheet; ComponentLink1URL: http://ww1.microchip.com/downloads/en/DeviceDoc/41365C.pdf; ComponentLink2Description: Packaging Specification; ComponentLink2URL: http://www.microchip.com/stellent/groups/techpub_sg/documents/packagingspec/en012702.pdf; ComponentLink3Description: Microchip.com Home; ComponentLink3URL: http://www.microchip.com/
footprint SSOP-SS20_N (SOP, 20-Leads, Body 7.2x5.2mm, Pitch 0.65mm, IPC Medium Density)
footprint SSOP-SS20_L (SOP, 20-Leads, Body 7.2x5.2mm, Pitch 0.65mm, IPC High Density)
footprint SSOP-SS20_M (SOP, 20-Leads, Body 7.2x5.2mm, Pitch 0.65mm, IPC Low Density)
pins: 1 VDD (power), 2 RA5/OSC1/CLKIN/T13CKI (io), 3 RA4/AN3/OSC2/CLKOUT (io), 4 RA3/~{MCLR}/VPP (in), 5 RC5/CCP1/P1A (io), 6 RC4/C2OUT/P1B/SRNQ (io), 7 RC3/AN7/C12IN3-/P1C/PGM (io), 8 RC6/AN8/~{SS} (io), 9 RC7/AN9/SDO (io), 10 RB7/TX/CK (io), 11 RB6/SCK/SCL (io), 12 RB5/AN11/RX/DT (io), 13 RB4/AN10/SDI/SDA (io), 14 RC2/AN6/C12IN2-/P1D (io), 15 RC1/AN5/C12IN1- (io), 16 RC0/AN4/C2IN+ (io), 17 RA2/AN2/C1OUT/T0CKI/INT2/SRQ (in), 18 RA1/AN1/C12IN0-/VREF+/INT1/PGC (io), 19 RA0/AN0/CVREF/VREF-/C1IN+/INT0/PGD (io), 20 VSS (power)

## PIC18F14K22-I/ML
designator U?
Flash Microcontroller with nanoWatt XLP Technology, 20-pin QFN, Industrial Temperature; Published: 2-Dec-2009; DatasheetVersion: revC, Oct-2009; PackageVersion: revBB, Aug-2009; PackageReference: QFN-ML20; Publisher: Altium Limited; PackageDescription: 20-Lead Plastic Quad Flat, No Lead Package (ML) - 4x4x0.9 mm Body [QFN]; Supplier 1: Digi-Key; Supplier Part Number 1: PIC18F14K22-I/ML-ND; Supplier 2: Farnell; Supplier Part Number 2: 1778461; ComponentLink1Description: Datasheet; ComponentLink1URL: http://ww1.microchip.com/downloads/en/DeviceDoc/41365C.pdf; ComponentLink2Description: Packaging Specification; ComponentLink2URL: http://www.microchip.com/stellent/groups/techpub_sg/documents/packagingspec/en012702.pdf; ComponentLink3Description: Microchip.com Home; ComponentLink3URL: http://www.microchip.com/
footprint QFN-ML20_N (QFN, 20-Leads, Body 4x4mm, Pitch 0.5mm, IPC Medium Density)
footprint QFN-ML20_L (QFN, 20-Leads, Body 4x4mm, Pitch 0.5mm, IPC High Density)
footprint QFN-ML20_M (QFN, 20-Leads, Body 4x4mm, Pitch 0.5mm, IPC Low Density)
pins: 1 RA3/~{MCLR}/VPP (in), 2 RC5/CCP1/P1A (io), 3 RC4/C2OUT/P1B/SRNQ (io), 4 RC3/AN7/C12IN3-/P1C/PGM (io), 5 RC6/AN8/~{SS} (io), 6 RC7/AN9/SDO (io), 7 RB7/TX/CK (io), 8 RB6/SCK/SCL (io), 9 RB5/AN11/RX/DT (io), 10 RB4/AN10/SDI/SDA (io), 11 RC2/AN6/C12IN2-/P1D (io), 12 RC1/AN5/C12IN1- (io), 13 RC0/AN4/C2IN+ (io), 14 RA2/AN2/C1OUT/T0CKI/INT2/SRQ (in), 15 RA1/AN1/C12IN0-/VREF+/INT1/PGC (io), 16 RA0/AN0/CVREF/VREF-/C1IN+/INT0/PGD (io), 17 VSS (power), 18 VDD (power), 19 RA5/OSC1/CLKIN/T13CKI (io), 20 RA4/AN3/OSC2/CLKOUT (io), 21 Thermal Pad (power)

## PIC18F14K22-I/P
designator U?
Flash Microcontroller with nanoWatt XLP Technology, 20-pin PDIP, Industrial Temperature; Published: 2-Dec-2009; DatasheetVersion: revC, Oct-2009; PackageVersion: revBB, Aug-2009; PackageReference: PDIP300-P20; Publisher: Altium Limited; PackageDescription: 20-Lead Plastic Dual In-Line (P) - 300 mil Body [PDIP]; Supplier 1: Digi-Key; Supplier Part Number 1: PIC18F14K22-I/P-ND; Supplier 2: Farnell; Supplier Part Number 2: 1778462; ComponentLink1Description: Datasheet; ComponentLink1URL: http://ww1.microchip.com/downloads/en/DeviceDoc/41365C.pdf; ComponentLink2Description: Packaging Specification; ComponentLink2URL: http://www.microchip.com/stellent/groups/techpub_sg/documents/packagingspec/en012702.pdf; ComponentLink3Description: Microchip.com Home; ComponentLink3URL: http://www.microchip.com/
footprint PDIP300-P20 (DIP, 20-Leads, Row Spacing 7.62mm, Pitch 2.54mm, Body 25.9x6.6mm)
pins: 1 VDD (power), 2 RA5/OSC1/CLKIN/T13CKI (io), 3 RA4/AN3/OSC2/CLKOUT (io), 4 RA3/~{MCLR}/VPP (in), 5 RC5/CCP1/P1A (io), 6 RC4/C2OUT/P1B/SRNQ (io), 7 RC3/AN7/C12IN3-/P1C/PGM (io), 8 RC6/AN8/~{SS} (io), 9 RC7/AN9/SDO (io), 10 RB7/TX/CK (io), 11 RB6/SCK/SCL (io), 12 RB5/AN11/RX/DT (io), 13 RB4/AN10/SDI/SDA (io), 14 RC2/AN6/C12IN2-/P1D (io), 15 RC1/AN5/C12IN1- (io), 16 RC0/AN4/C2IN+ (io), 17 RA2/AN2/C1OUT/T0CKI/INT2/SRQ (in), 18 RA1/AN1/C12IN0-/VREF+/INT1/PGC (io), 19 RA0/AN0/CVREF/VREF-/C1IN+/INT0/PGD (io), 20 VSS (power)

## PIC18F14K22-I/SO
designator U?
Flash Microcontroller with nanoWatt XLP Technology, 20-pin SOIC, Industrial Temperature; Published: 2-Dec-2009; DatasheetVersion: revC, Oct-2009; PackageVersion: revBB, Aug-2009; PackageReference: SOIC-SO20; Publisher: Altium Limited; PackageDescription: 20-Lead Plastic Small Outline (SO) - Wide 7.50mm Body [SOIC]; Supplier 1: Digi-Key; Supplier Part Number 1: PIC18F14K22-I/SO-ND; Supplier 2: Farnell; Supplier Part Number 2: 1778463; Code_JEDEC: MS-013-AC; Code_IPC: SOIC127P1030-20; ComponentLink1Description: Datasheet; ComponentLink1URL: http://ww1.microchip.com/downloads/en/DeviceDoc/41365C.pdf; ComponentLink2Description: Packaging Specification; ComponentLink2URL: http://www.microchip.com/stellent/groups/techpub_sg/documents/packagingspec/en012702.pdf; ComponentLink3Description: Microchip.com Home; ComponentLink3URL: http://www.microchip.com/
footprint SOIC-SO20_N (SOIC, 20-Leads, Body 12.8x7.5mm, Pitch 1.27mm, IPC Medium Density)
footprint SOIC-SO20_L (SOIC, 20-Leads, Body 12.8x7.5mm, Pitch 1.27mm, IPC High Density)
footprint SOIC-SO20_M (SOIC, 20-Leads, Body 12.8x7.5mm, Pitch 1.27mm, IPC Low Density)
pins: 1 VDD (power), 2 RA5/OSC1/CLKIN/T13CKI (io), 3 RA4/AN3/OSC2/CLKOUT (io), 4 RA3/~{MCLR}/VPP (in), 5 RC5/CCP1/P1A (io), 6 RC4/C2OUT/P1B/SRNQ (io), 7 RC3/AN7/C12IN3-/P1C/PGM (io), 8 RC6/AN8/~{SS} (io), 9 RC7/AN9/SDO (io), 10 RB7/TX/CK (io), 11 RB6/SCK/SCL (io), 12 RB5/AN11/RX/DT (io), 13 RB4/AN10/SDI/SDA (io), 14 RC2/AN6/C12IN2-/P1D (io), 15 RC1/AN5/C12IN1- (io), 16 RC0/AN4/C2IN+ (io), 17 RA2/AN2/C1OUT/T0CKI/INT2/SRQ (in), 18 RA1/AN1/C12IN0-/VREF+/INT1/PGC (io), 19 RA0/AN0/CVREF/VREF-/C1IN+/INT0/PGD (io), 20 VSS (power)

## PIC18F14K22-I/SS
designator U?
Flash Microcontroller with nanoWatt XLP Technology, 20-pin SSOP, Industrial Temperature; Published: 2-Dec-2009; DatasheetVersion: revC, Oct-2009; PackageVersion: revBB, Aug-2009; PackageReference: SSOP-SS20; Publisher: Altium Limited; PackageDescription: 20-Lead Plastic Shrink Small Outline (SS) - 5.3mm Body [SSOP]; Supplier 1: Digi-Key; Supplier Part Number 1: PIC18F14K22-I/SS-ND; Supplier 2: Farnell; Supplier Part Number 2: 1778464; Code_JEDEC: MO-150; Code_IPC: SOP65P780-20; ComponentLink1Description: Datasheet; ComponentLink1URL: http://ww1.microchip.com/downloads/en/DeviceDoc/41365C.pdf; ComponentLink2Description: Packaging Specification; ComponentLink2URL: http://www.microchip.com/stellent/groups/techpub_sg/documents/packagingspec/en012702.pdf; ComponentLink3Description: Microchip.com Home; ComponentLink3URL: http://www.microchip.com/
footprint SSOP-SS20_N (SOP, 20-Leads, Body 7.2x5.2mm, Pitch 0.65mm, IPC Medium Density)
footprint SSOP-SS20_L (SOP, 20-Leads, Body 7.2x5.2mm, Pitch 0.65mm, IPC High Density)
footprint SSOP-SS20_M (SOP, 20-Leads, Body 7.2x5.2mm, Pitch 0.65mm, IPC Low Density)
pins: 1 VDD (power), 2 RA5/OSC1/CLKIN/T13CKI (io), 3 RA4/AN3/OSC2/CLKOUT (io), 4 RA3/~{MCLR}/VPP (in), 5 RC5/CCP1/P1A (io), 6 RC4/C2OUT/P1B/SRNQ (io), 7 RC3/AN7/C12IN3-/P1C/PGM (io), 8 RC6/AN8/~{SS} (io), 9 RC7/AN9/SDO (io), 10 RB7/TX/CK (io), 11 RB6/SCK/SCL (io), 12 RB5/AN11/RX/DT (io), 13 RB4/AN10/SDI/SDA (io), 14 RC2/AN6/C12IN2-/P1D (io), 15 RC1/AN5/C12IN1- (io), 16 RC0/AN4/C2IN+ (io), 17 RA2/AN2/C1OUT/T0CKI/INT2/SRQ (in), 18 RA1/AN1/C12IN0-/VREF+/INT1/PGC (io), 19 RA0/AN0/CVREF/VREF-/C1IN+/INT0/PGD (io), 20 VSS (power)

## PIC18F14K22T-I/ML
designator U?
Flash Microcontroller with nanoWatt XLP Technology, 20-pin QFN, Industrial Temperature, Tape and Reel; Published: 2-Dec-2009; DatasheetVersion: revC, Oct-2009; PackageVersion: revBB, Aug-2009; PackageReference: QFN-ML20; Publisher: Altium Limited; PackageDescription: 20-Lead Plastic Quad Flat, No Lead Package (ML) - 4x4x0.9 mm Body [QFN]; Supplier 1: Digi-Key; Supplier Part Number 1: PIC18F14K22T-I/ML-ND; ComponentLink1Description: Datasheet; ComponentLink1URL: http://ww1.microchip.com/downloads/en/DeviceDoc/41365C.pdf; ComponentLink2Description: Packaging Specification; ComponentLink2URL: http://www.microchip.com/stellent/groups/techpub_sg/documents/packagingspec/en012702.pdf; ComponentLink3Description: Microchip.com Home; ComponentLink3URL: http://www.microchip.com/
footprint QFN-ML20_N (QFN, 20-Leads, Body 4x4mm, Pitch 0.5mm, IPC Medium Density)
footprint QFN-ML20_L (QFN, 20-Leads, Body 4x4mm, Pitch 0.5mm, IPC High Density)
footprint QFN-ML20_M (QFN, 20-Leads, Body 4x4mm, Pitch 0.5mm, IPC Low Density)
pins: 1 RA3/~{MCLR}/VPP (in), 2 RC5/CCP1/P1A (io), 3 RC4/C2OUT/P1B/SRNQ (io), 4 RC3/AN7/C12IN3-/P1C/PGM (io), 5 RC6/AN8/~{SS} (io), 6 RC7/AN9/SDO (io), 7 RB7/TX/CK (io), 8 RB6/SCK/SCL (io), 9 RB5/AN11/RX/DT (io), 10 RB4/AN10/SDI/SDA (io), 11 RC2/AN6/C12IN2-/P1D (io), 12 RC1/AN5/C12IN1- (io), 13 RC0/AN4/C2IN+ (io), 14 RA2/AN2/C1OUT/T0CKI/INT2/SRQ (in), 15 RA1/AN1/C12IN0-/VREF+/INT1/PGC (io), 16 RA0/AN0/CVREF/VREF-/C1IN+/INT0/PGD (io), 17 VSS (power), 18 VDD (power), 19 RA5/OSC1/CLKIN/T13CKI (io), 20 RA4/AN3/OSC2/CLKOUT (io), 21 Thermal Pad (power)

## PIC18F14K22T-I/SO
designator U?
Flash Microcontroller with nanoWatt XLP Technology, 20-pin SOIC, Industrial Temperature, Tape and Reel; Published: 2-Dec-2009; DatasheetVersion: revC, Oct-2009; PackageVersion: revBB, Aug-2009; PackageReference: SOIC-SO20; Publisher: Altium Limited; PackageDescription: 20-Lead Plastic Small Outline (SO) - Wide 7.50mm Body [SOIC]; Supplier 1: Digi-Key; Supplier Part Number 1: PIC18F14K22T-I/SO-ND; Code_JEDEC: MS-013-AC; Code_IPC: SOIC127P1030-20; ComponentLink1Description: Datasheet; ComponentLink1URL: http://ww1.microchip.com/downloads/en/DeviceDoc/41365C.pdf; ComponentLink2Description: Packaging Specification; ComponentLink2URL: http://www.microchip.com/stellent/groups/techpub_sg/documents/packagingspec/en012702.pdf; ComponentLink3Description: Microchip.com Home; ComponentLink3URL: http://www.microchip.com/
footprint SOIC-SO20_N (SOIC, 20-Leads, Body 12.8x7.5mm, Pitch 1.27mm, IPC Medium Density)
footprint SOIC-SO20_L (SOIC, 20-Leads, Body 12.8x7.5mm, Pitch 1.27mm, IPC High Density)
footprint SOIC-SO20_M (SOIC, 20-Leads, Body 12.8x7.5mm, Pitch 1.27mm, IPC Low Density)
pins: 1 VDD (power), 2 RA5/OSC1/CLKIN/T13CKI (io), 3 RA4/AN3/OSC2/CLKOUT (io), 4 RA3/~{MCLR}/VPP (in), 5 RC5/CCP1/P1A (io), 6 RC4/C2OUT/P1B/SRNQ (io), 7 RC3/AN7/C12IN3-/P1C/PGM (io), 8 RC6/AN8/~{SS} (io), 9 RC7/AN9/SDO (io), 10 RB7/TX/CK (io), 11 RB6/SCK/SCL (io), 12 RB5/AN11/RX/DT (io), 13 RB4/AN10/SDI/SDA (io), 14 RC2/AN6/C12IN2-/P1D (io), 15 RC1/AN5/C12IN1- (io), 16 RC0/AN4/C2IN+ (io), 17 RA2/AN2/C1OUT/T0CKI/INT2/SRQ (in), 18 RA1/AN1/C12IN0-/VREF+/INT1/PGC (io), 19 RA0/AN0/CVREF/VREF-/C1IN+/INT0/PGD (io), 20 VSS (power)

## PIC18F14K22T-I/SS
designator U?
Flash Microcontroller with nanoWatt XLP Technology, 20-pin SSOP, Industrial Temperature, Tape and Reel; Published: 2-Dec-2009; DatasheetVersion: revC, Oct-2009; PackageVersion: revBB, Aug-2009; PackageReference: SSOP-SS20; Publisher: Altium Limited; PackageDescription: 20-Lead Plastic Shrink Small Outline (SS) - 5.3mm Body [SSOP]; Supplier 1: Digi-Key; Supplier Part Number 1: PIC18F14K22T-I/SS-ND; Code_JEDEC: MO-150; Code_IPC: SOP65P780-20; ComponentLink1Description: Datasheet; ComponentLink1URL: http://ww1.microchip.com/downloads/en/DeviceDoc/41365C.pdf; ComponentLink2Description: Packaging Specification; ComponentLink2URL: http://www.microchip.com/stellent/groups/techpub_sg/documents/packagingspec/en012702.pdf; ComponentLink3Description: Microchip.com Home; ComponentLink3URL: http://www.microchip.com/
footprint SSOP-SS20_N (SOP, 20-Leads, Body 7.2x5.2mm, Pitch 0.65mm, IPC Medium Density)
footprint SSOP-SS20_L (SOP, 20-Leads, Body 7.2x5.2mm, Pitch 0.65mm, IPC High Density)
footprint SSOP-SS20_M (SOP, 20-Leads, Body 7.2x5.2mm, Pitch 0.65mm, IPC Low Density)
pins: 1 VDD (power), 2 RA5/OSC1/CLKIN/T13CKI (io), 3 RA4/AN3/OSC2/CLKOUT (io), 4 RA3/~{MCLR}/VPP (in), 5 RC5/CCP1/P1A (io), 6 RC4/C2OUT/P1B/SRNQ (io), 7 RC3/AN7/C12IN3-/P1C/PGM (io), 8 RC6/AN8/~{SS} (io), 9 RC7/AN9/SDO (io), 10 RB7/TX/CK (io), 11 RB6/SCK/SCL (io), 12 RB5/AN11/RX/DT (io), 13 RB4/AN10/SDI/SDA (io), 14 RC2/AN6/C12IN2-/P1D (io), 15 RC1/AN5/C12IN1- (io), 16 RC0/AN4/C2IN+ (io), 17 RA2/AN2/C1OUT/T0CKI/INT2/SRQ (in), 18 RA1/AN1/C12IN0-/VREF+/INT1/PGC (io), 19 RA0/AN0/CVREF/VREF-/C1IN+/INT0/PGD (io), 20 VSS (power)

## PIC18F14K50-I/P
designator U?
USB Flash Microcontroller with nanoWatt XLP Technology, 20-pin PDIP, Industrial Temperature; Published: 2-Dec-2009; DatasheetVersion: revC, Mar-2009; PackageVersion: revBB, Aug-2009; PackageReference: PDIP300-P20; Publisher: Altium Limited; PackageDescription: 20-Lead Plastic Dual In-Line (P) - 300 mil Body [PDIP]; Supplier 1: Digi-Key; Supplier Part Number 1: PIC18F14K50-I/P-ND; Supplier 2: Farnell; Supplier Part Number 2: 1648501; ComponentLink1Description: Datasheet; ComponentLink1URL: http://ww1.microchip.com/downloads/en/DeviceDoc/41350C.pdf; ComponentLink2Description: Packaging Specification; ComponentLink2URL: http://www.microchip.com/stellent/groups/techpub_sg/documents/packagingspec/en012702.pdf; ComponentLink3Description: Microchip.com Home; ComponentLink3URL: http://www.microchip.com/
footprint PDIP300-P20 (DIP, 20-Leads, Row Spacing 7.62mm, Pitch 2.54mm, Body 25.9x6.6mm)
pins: 1 VDD (power), 2 RA5/OSC1/CLKIN (io), 3 RA4/AN3/OSC2/CLKOUT (io), 4 RA3/~{MCLR}/VPP (in), 5 RC5/CCP1/P1A/T0CKI (io), 6 RC4/P1B/C12OUT/SRQ (io), 7 RC3/AN7/P1C/C12IN3-/PGM (io), 8 RC6/AN8/~{SS}/T13CKI/T1OSCI (io), 9 RC7/AN9/SDO/T1OSCO (io), 10 RB7/TX/CK (io), 11 RB6/SCK/SCL (io), 12 RB5/AN11/RX/DT (io), 13 RB4/AN10/SDI/SDA (io), 14 RC2/AN6/P1D/C12IN2-/CVREF/INT2 (io), 15 RC1/AN5/C12IN1-/INT1/VREF- (io), 16 RC0/AN4/C12IN+/INT0/VREF+ (io), 17 VUSB (in), 18 RA1/D-/PGC (io), 19 RA0/D+/PGD (io), 20 VSS (power)

## PIC18F14K50-I/SO
designator U?
USB Flash Microcontroller with nanoWatt XLP Technology, 20-pin SOIC, Industrial Temperature; Published: 2-Dec-2009; DatasheetVersion: revC, Mar-2009; PackageVersion: revBB, Aug-2009; PackageReference: SOIC-SO20; Publisher: Altium Limited; PackageDescription: 20-Lead Plastic Small Outline (SO) - Wide 7.50mm Body [SOIC]; Supplier 1: Digi-Key; Supplier Part Number 1: PIC18F14K50-I/SO-ND; Supplier 2: Farnell; Supplier Part Number 2: 1648502; Code_JEDEC: MS-013-AC; Code_IPC: SOIC127P1030-20; ComponentLink1Description: Datasheet; ComponentLink1URL: http://ww1.microchip.com/downloads/en/DeviceDoc/41350C.pdf; ComponentLink2Description: Packaging Specification; ComponentLink2URL: http://www.microchip.com/stellent/groups/techpub_sg/documents/packagingspec/en012702.pdf; ComponentLink3Description: Microchip.com Home; ComponentLink3URL: http://www.microchip.com/
footprint SOIC-SO20_N (SOIC, 20-Leads, Body 12.8x7.5mm, Pitch 1.27mm, IPC Medium Density)
footprint SOIC-SO20_L (SOIC, 20-Leads, Body 12.8x7.5mm, Pitch 1.27mm, IPC High Density)
footprint SOIC-SO20_M (SOIC, 20-Leads, Body 12.8x7.5mm, Pitch 1.27mm, IPC Low Density)
pins: 1 VDD (power), 2 RA5/OSC1/CLKIN (io), 3 RA4/AN3/OSC2/CLKOUT (io), 4 RA3/~{MCLR}/VPP (in), 5 RC5/CCP1/P1A/T0CKI (io), 6 RC4/P1B/C12OUT/SRQ (io), 7 RC3/AN7/P1C/C12IN3-/PGM (io), 8 RC6/AN8/~{SS}/T13CKI/T1OSCI (io), 9 RC7/AN9/SDO/T1OSCO (io), 10 RB7/TX/CK (io), 11 RB6/SCK/SCL (io), 12 RB5/AN11/RX/DT (io), 13 RB4/AN10/SDI/SDA (io), 14 RC2/AN6/P1D/C12IN2-/CVREF/INT2 (io), 15 RC1/AN5/C12IN1-/INT1/VREF- (io), 16 RC0/AN4/C12IN+/INT0/VREF+ (io), 17 VUSB (in), 18 RA1/D-/PGC (io), 19 RA0/D+/PGD (io), 20 VSS (power)

## PIC18F14K50-I/SS
designator U?
USB Flash Microcontroller with nanoWatt XLP Technology, 20-pin SSOP, Industrial Temperature; Published: 2-Dec-2009; DatasheetVersion: revC, Mar-2009; PackageVersion: revBB, Aug-2009; PackageReference: SSOP-SS20; Publisher: Altium Limited; PackageDescription: 20-Lead Plastic Shrink Small Outline (SS) - 5.3mm Body [SSOP]; Supplier 1: Digi-Key; Supplier Part Number 1: PIC18F14K50-I/SS-ND; Supplier 2: Farnell; Supplier Part Number 2: 1648504; Code_JEDEC: MO-150; Code_IPC: SOP65P780-20; ComponentLink1Description: Datasheet; ComponentLink1URL: http://ww1.microchip.com/downloads/en/DeviceDoc/41350C.pdf; ComponentLink2Description: Packaging Specification; ComponentLink2URL: http://www.microchip.com/stellent/groups/techpub_sg/documents/packagingspec/en012702.pdf; ComponentLink3Description: Microchip.com Home; ComponentLink3URL: http://www.microchip.com/
footprint SSOP-SS20_N (SOP, 20-Leads, Body 7.2x5.2mm, Pitch 0.65mm, IPC Medium Density)
footprint SSOP-SS20_L (SOP, 20-Leads, Body 7.2x5.2mm, Pitch 0.65mm, IPC High Density)
footprint SSOP-SS20_M (SOP, 20-Leads, Body 7.2x5.2mm, Pitch 0.65mm, IPC Low Density)
pins: 1 VDD (power), 2 RA5/OSC1/CLKIN (io), 3 RA4/AN3/OSC2/CLKOUT (io), 4 RA3/~{MCLR}/VPP (in), 5 RC5/CCP1/P1A/T0CKI (io), 6 RC4/P1B/C12OUT/SRQ (io), 7 RC3/AN7/P1C/C12IN3-/PGM (io), 8 RC6/AN8/~{SS}/T13CKI/T1OSCI (io), 9 RC7/AN9/SDO/T1OSCO (io), 10 RB7/TX/CK (io), 11 RB6/SCK/SCL (io), 12 RB5/AN11/RX/DT (io), 13 RB4/AN10/SDI/SDA (io), 14 RC2/AN6/P1D/C12IN2-/CVREF/INT2 (io), 15 RC1/AN5/C12IN1-/INT1/VREF- (io), 16 RC0/AN4/C12IN+/INT0/VREF+ (io), 17 VUSB (in), 18 RA1/D-/PGC (io), 19 RA0/D+/PGD (io), 20 VSS (power)

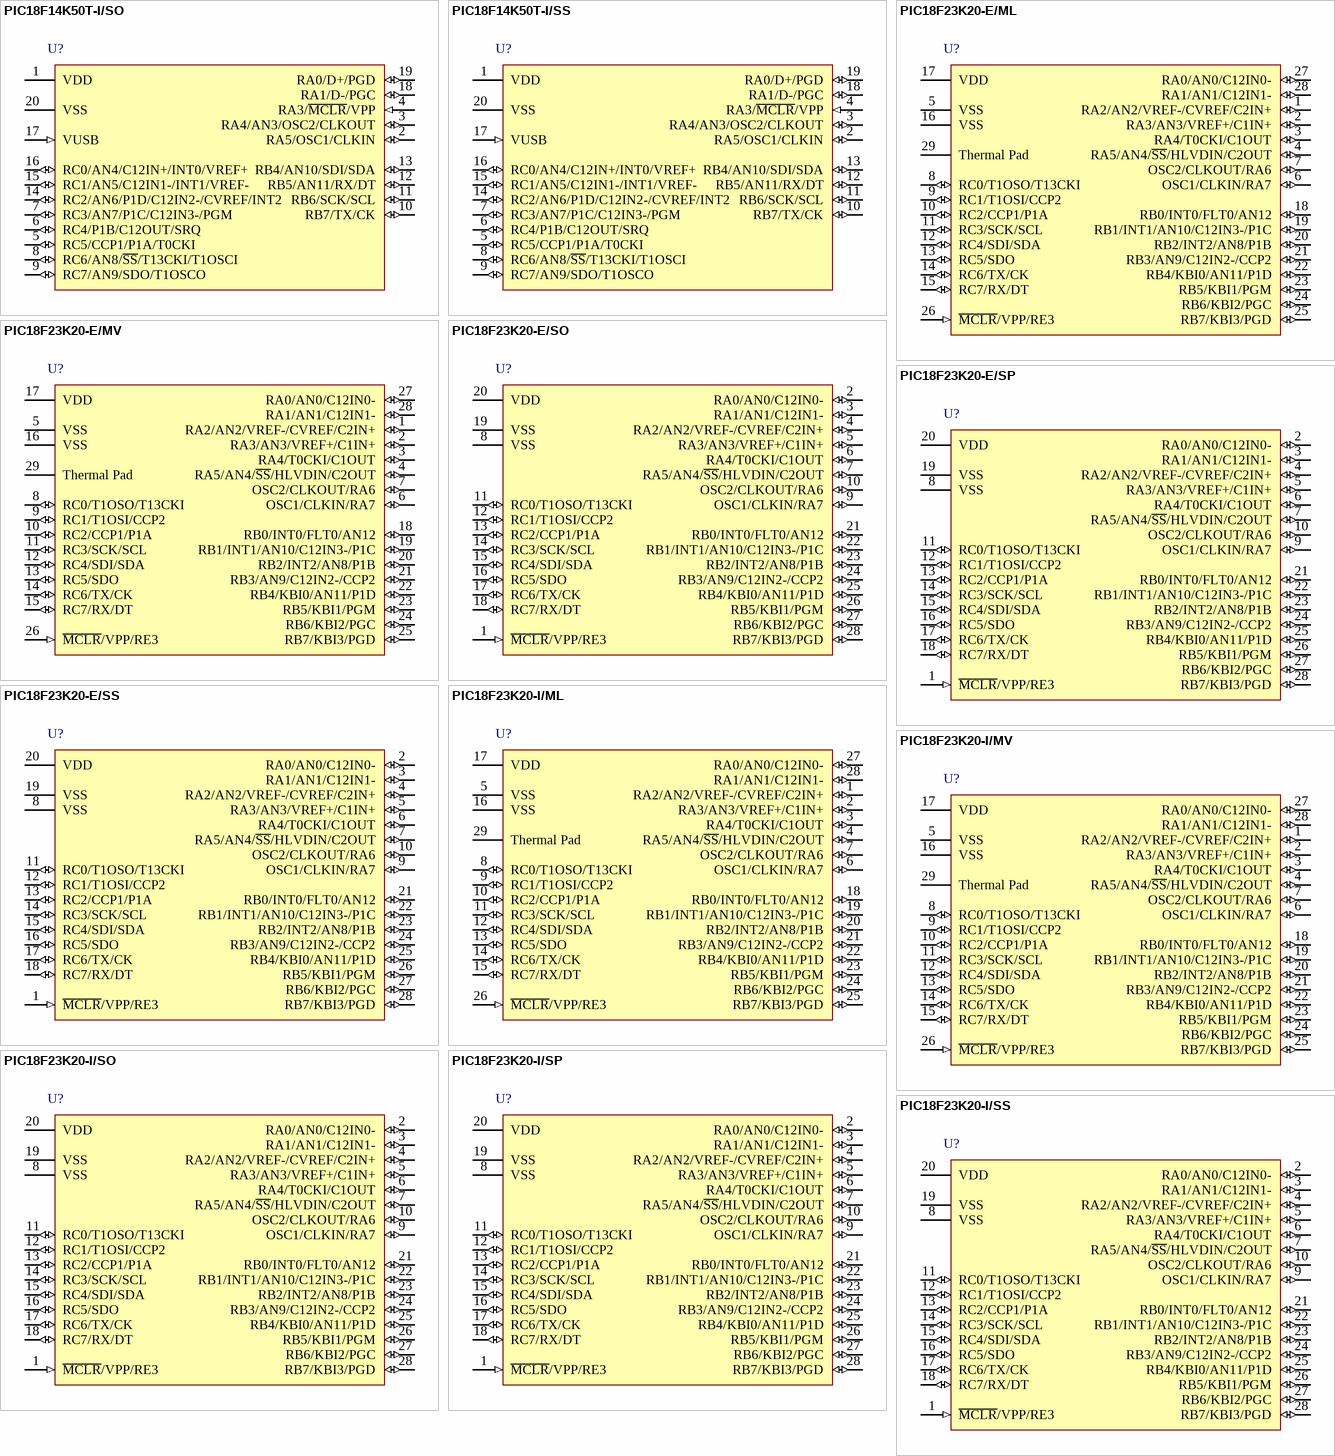
[diagram p2: symbols PIC18F14K50T-I/SO to PIC18F23K20-I/SS]